# Altium schematic symbol library Power.SchLib: 8 symbols
Pins are listed as number, name and electrical type; pins without a type are passive.

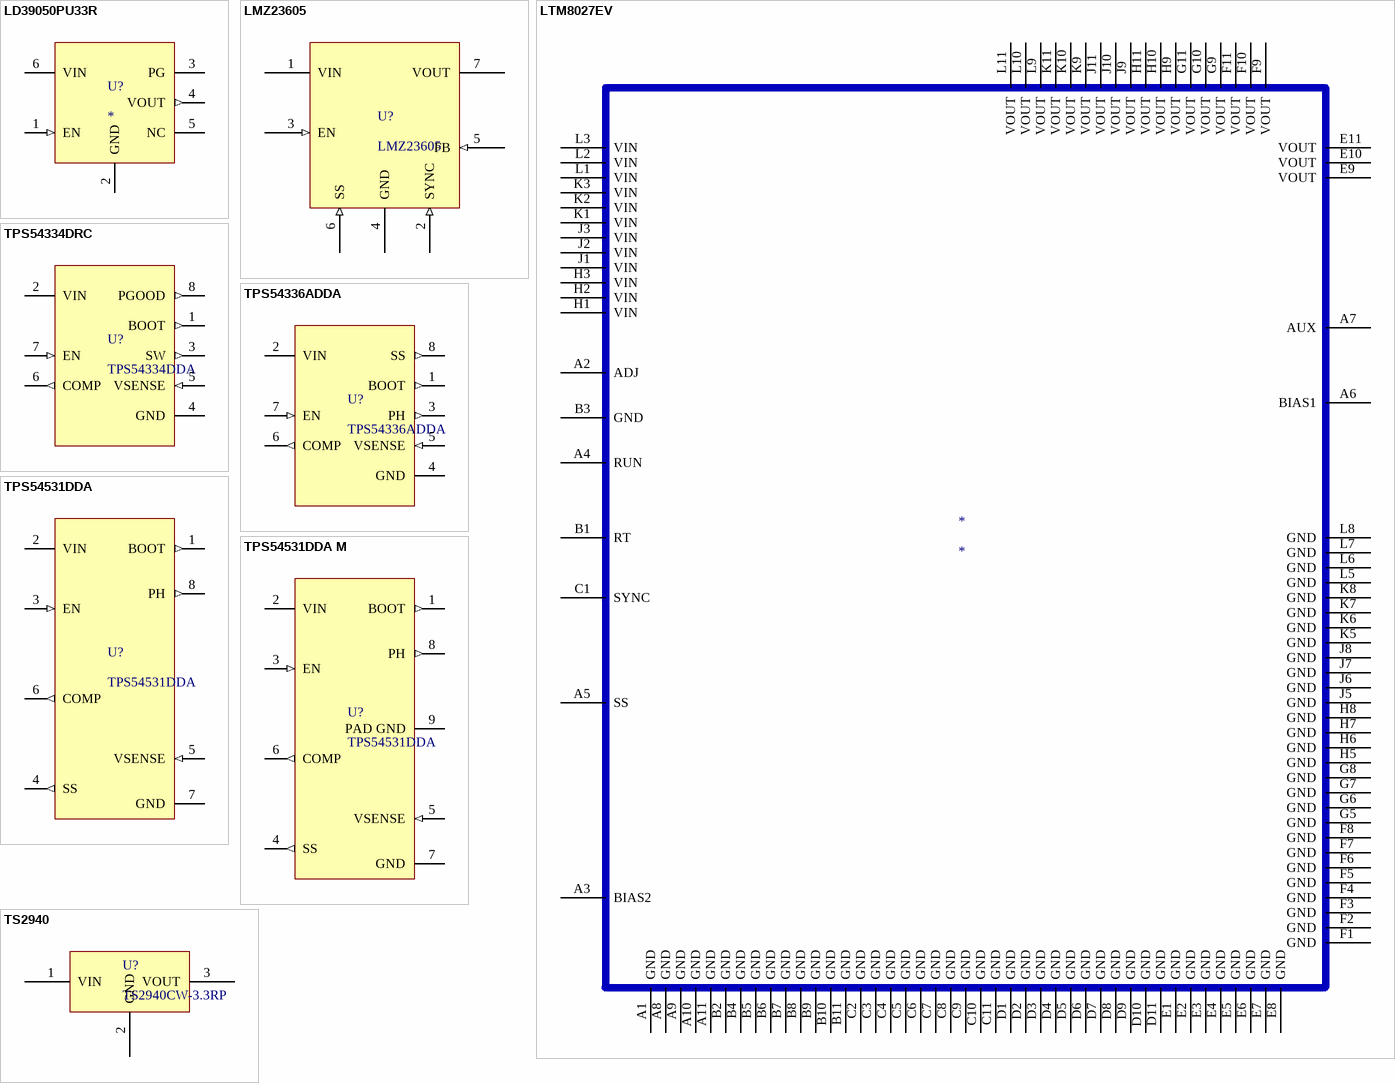
[diagram p0: symbols LD39050PU33R to TS2940]

## LD39050PU33R
designator U?
footprint DFN6 ((3X3 mm))
pins: 1 EN (in), 2 GND (power), 3 PG, 4 VOUT (out), 5 NC, 6 VIN (power)

## LMZ23605
designator U?
footprint TO-263-7
pins: 1 VIN (power), 2 SYNC (in), 3 EN (in), 4 GND (power), 5 FB (in), 6 SS (in), 7 VOUT (power)

## LTM8027EV
designator *
footprint LTM8027 (113-Lead 15mmx15mm LGA Package)
pins: A1 GND, A2 ADJ, A3 BIAS2, A4 RUN, A5 SS, A6 BIAS1, A7 AUX, A8 GND, A9 GND, A10 GND, A11 GND, B1 RT, B2 GND, B3 GND, B4 GND, B5 GND, B6 GND, B7 GND, B8 GND, B9 GND, B10 GND, B11 GND, C1 SYNC, C2 GND, C3 GND, C4 GND, C5 GND, C6 GND, C7 GND, C8 GND, C9 GND, C10 GND, C11 GND, D1 GND, D2 GND, D3 GND, D4 GND, D5 GND, D6 GND, D7 GND, D8 GND, D9 GND, D10 GND, D11 GND, E1 GND, E2 GND, E3 GND, E4 GND, E5 GND, E6 GND, E7 GND, E8 GND, E9 VOUT, E10 VOUT, E11 VOUT, F1 GND, F2 GND, F3 GND, F4 GND, F5 GND, F6 GND, F7 GND, F8 GND, F9 VOUT, F10 VOUT, F11 VOUT, G5 GND, G6 GND, G7 GND, G8 GND, G9 VOUT, G10 VOUT, G11 VOUT, H1 VIN, H2 VIN, H3 VIN, H5 GND, H6 GND, H7 GND, H8 GND, H9 VOUT, H10 VOUT, H11 VOUT, J1 VIN, J2 VIN, J3 VIN, J5 GND, J6 GND, J7 GND, J8 GND, J9 VOUT, J10 VOUT, J11 VOUT, K1 VIN, K2 VIN, K3 VIN, K5 GND, K6 GND, K7 GND, K8 GND, K9 VOUT, K10 VOUT, K11 VOUT, L1 VIN, L2 VIN, L3 VIN, L5 GND, L6 GND, L7 GND, L8 GND, L9 VOUT, L10 VOUT, L11 VOUT

## TPS54334DRC
designator U?, comment TPS54334DDA
TEXAS INSTRUMENTS         TPS54334DDA             DC-DC Switching Buck Step Down Regulator, Adjustable, 4.2V-28Vin, 800mV-24Vout, 3Aout, HSOP-8; Manufacturer: Texas Instruments (TI); Supplier: Farnell; Manufacturer Part Number: TPS54334DDA; Supplier Part Number: 2498498
footprint SO8 DDA (R-PDS0-G8)
pins: 1 BOOT (out), 2 VIN (power), 3 SW (out), 4 GND (power), 5 VSENSE (in), 6 COMP (out), 7 EN (in), 8 PGOOD (out)

## TPS54336ADDA
designator U?
TEXAS INSTRUMENTS         TPS54336ADDA            DC-DC Switching Buck Step Down Regulator, Adjustable, 4.5V-28Vin, 800mV-25Vout, 3Aout, PPAD-8; Manufacturer: Texas Instruments (TI); Supplier: Element14; Manufacturer Part Number: TPS54336ADDA; Supplier Part Number: 2347000
footprint SO8 DDA (R-PDS0-G8)
pins: 1 BOOT (out), 2 VIN (power), 3 PH (out), 4 GND (power), 5 VSENSE (in), 6 COMP (out), 7 EN (in), 8 SS (out)

## TPS54531DDA
designator U?
IC REG BUCK ADJ 5A 8SOPWRPAD; Manufacturer: Texas Instruments; Supplier: Element14; Manufacturer Part Number: TPS54531DDA; Supplier Part Number: 2346997
footprint SO8 DDA (R-PDS0-G8)
pins: 1 BOOT (out), 2 VIN (power), 3 EN (in), 4 SS (out), 5 VSENSE (in), 6 COMP (out), 7 GND (power), 8 PH (out)

## TPS54531DDA M
designator U?, comment TPS54531DDA
IC REG BUCK ADJ 5A 8SOPWRPAD Added Hsink Pin; Manufacturer: Texas Instruments; Supplier: Element14; Manufacturer Part Number: TPS54531DDA; Supplier Part Number: 2346997
footprint SO8 DDA - M (R-PDS0-G8  w Heat Sink Pad Pin Number Added)
pins: 1 BOOT (out), 2 VIN (power), 3 EN (in), 4 SS (out), 5 VSENSE (in), 6 COMP (out), 7 GND (power), 8 PH (out), 9 PAD GND (power)

## TS2940
designator U?, comment TS2940CW-3.3RP
TAIWAN SEMICONDUCTOR         TS2940CW-3.3 RP             Fixed LDO Voltage Regulator, 0V to 35V, 600mV Dropout, 3.3Vout, 1Aout, SOT-223-3; Supplier: Element14; Manufacturer Part Number: TS2940CW-3.3RP; Manufacturer: Taiwan Semiconductor; Supplier Part Number: 7261403
footprint SOT-223
pins: 1 VIN (power), 2 GND (power), 3 VOUT (power)